# EAGLE library part HEADER_POS20_? (library con-molex-micro-fit-3_0)
Molex - Micro-Fit 3.0 Series connector, 3.00mm (0.118") pitch header, 20 positions.
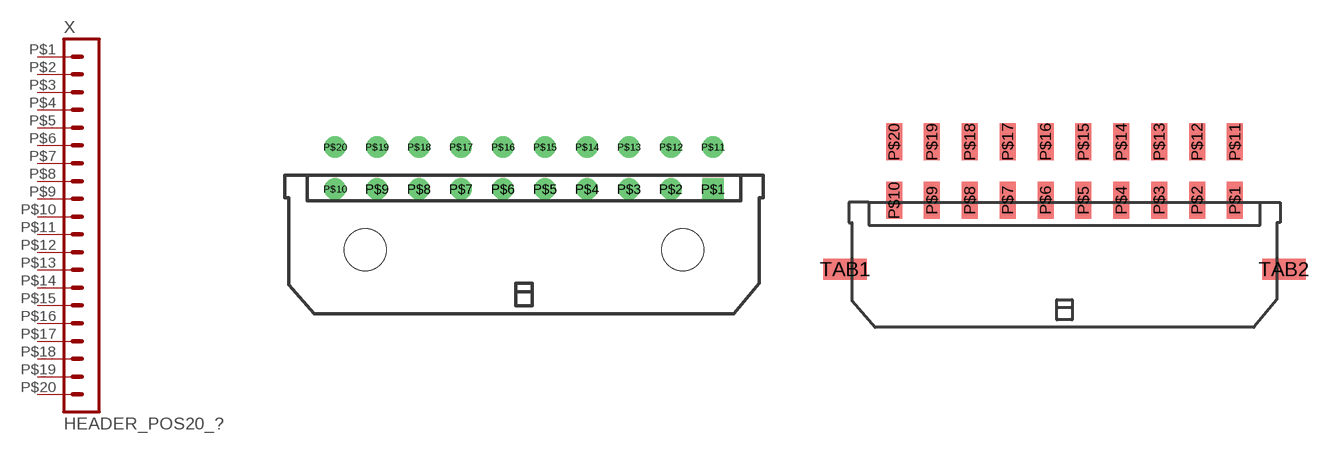
[diagram p8: symbol with the pads of 43045-2000; footprints 43045-2000, 43045-2009]

Designator prefix X

## HEADER_POS20_43045-2000  [43045-2000]
P$1  1  pas
P$2  2  pas
P$3  3  pas
P$4  4  pas
P$5  5  pas
P$6  6  pas
P$7  7  pas
P$8  8  pas
P$9  9  pas
P$10  10  pas
P$11  11  pas
P$12  12  pas
P$13  13  pas
P$14  14  pas
P$15  15  pas
P$16  16  pas
P$17  17  pas
P$18  18  pas
P$19  19  pas
P$20  20  pas

## HEADER_POS20_43045-2009  [43045-2009]
Pads as for 43045-2000

## HEADER_POS20_43045-2006  [43045-2006]
Pads as for 43045-2000

## HEADER_POS20_43045-2012  [43045-2012]
Pads as for 43045-2000

## HEADER_POS20_43045-2015  [43045-2015]
Pads as for 43045-2000

## HEADER_POS20_43045-2018  [43045-2018]
Pads as for 43045-2000

## HEADER_POS20_44914-2001  [44914-2001]
Pads as for 43045-2000

## HEADER_POS20_44769-2001  [44769-2001]
Pads as for 43045-2000

## HEADER_POS20_44432-2001  [44432-2001]
Pads as for 43045-2000

## HEADER_POS20_44428-2001  [44428-2001]
Pads as for 43045-2000

## HEADER_POS20_44764-2001  [44764-2001]
Pads as for 43045-2000

## Footprint 43045-2000 (pad centres in mm)
Molex Micro-Fit 3.0 - Header Shrouded, Thru hole, Right Angle; P/N: SD-43045-2000, SD-43045-2001, SD-43045-2002 http://www.molex.com/pdm_docs/sd/430450200_sd.pdf
drill 1.02 square: P$1 13.5,4.32
drill 1.02: P$2 10.5,4.32; P$3 7.5,4.32; P$4 4.5,4.32; P$5 1.5,4.32; P$6 -1.5,4.32; P$7 -4.5,4.32; P$8 -7.5,4.32; P$9 -10.5,4.32; P$10 -13.5,4.32; P$11 13.5,7.32; P$12 10.5,7.32; P$13 7.5,7.32; P$14 4.5,7.32; P$15 1.5,7.32; P$16 -1.5,7.32; P$17 -4.5,7.32; P$18 -7.5,7.32; P$19 -10.5,7.32; P$20 -13.5,7.32
hole 3 at 11.35,0
hole 3 at -11.35,0

## Footprint 43045-2009 (pad centres in mm)
Molex Micro-Fit 3.0 - Header Shrouded, Surface mount, Right Angle, Solderable tabs; P/N: SD-43045-2009, SD-43045-2010, SD-43045-2011 http://www.molex.com/pdm_docs/sd/430450209_sd.pdf
smd 1.27 x 2.92: P$1 13.5,5.47; P$2 10.5,5.47; P$3 7.5,5.47; P$4 4.5,5.47; P$5 1.5,5.47; P$6 -1.5,5.47; P$7 -4.5,5.47; P$8 -7.5,5.47; P$9 -10.5,5.47; P$10 -13.5,5.47; P$11 13.5,10.1; P$12 10.5,10.1; P$13 7.5,10.1; P$14 4.5,10.1; P$15 1.5,10.1; P$16 -1.5,10.1; P$17 -4.5,10.1; P$18 -7.5,10.1; P$19 -10.5,10.1; P$20 -13.5,10.1
smd 3.43 x 1.65: TAB1 -17.38,0; TAB2 17.38,0

## Footprint 43045-2006 (pad centres in mm)
Molex Micro-Fit 3.0 - Header Shrouded, Surface mount, Right Angle, Solderable Retention clips; P/N: SD-43045-2006, SD-43045-2007, SD-43045-2008 http://www.molex.com/pdm_docs/sd/430450206_sd.pdf
smd 1.27 x 2.92: P$1 13.5,5.47; P$2 10.5,5.47; P$3 7.5,5.47; P$4 4.5,5.47; P$5 1.5,5.47; P$6 -1.5,5.47; P$7 -4.5,5.47; P$8 -7.5,5.47; P$9 -10.5,5.47; P$10 -13.5,5.47; P$11 13.5,10.1; P$12 10.5,10.1; P$13 7.5,10.1; P$14 4.5,10.1; P$15 1.5,10.1; P$16 -1.5,10.1; P$17 -4.5,10.1; P$18 -7.5,10.1; P$19 -10.5,10.1; P$20 -13.5,10.1
hole 2.41 at -15.65,0
hole 2.41 at 15.65,0

## Footprint 43045-2012 (pad centres in mm)
Molex Micro-Fit 3.0 - Header Shrouded, Thru hole, Vertical, with Pegs; P/N: SD-43045-2012, SD-43045-2013, SD-43045-2014 http://www.molex.com/pdm_docs/sd/430450212_sd.pdf
drill 1.02 square: P$1 13.5,0
drill 1.02: P$2 10.5,0; P$3 7.5,0; P$4 4.5,0; P$5 1.5,0; P$6 -1.5,0; P$7 -4.5,0; P$8 -7.5,0; P$9 -10.5,0; P$10 -13.5,0; P$11 13.5,3; P$12 10.5,3; P$13 7.5,3; P$14 4.5,3; P$15 1.5,3; P$16 -1.5,3; P$17 -4.5,3; P$18 -7.5,3; P$19 -10.5,3; P$20 -13.5,3
hole 1.02 at 16.5,3.94
hole 1.02 at -16.5,3.94

## Footprint 43045-2015 (pad centres in mm)
Molex Micro-Fit 3.0 - Header Shrouded, Surface mount, Vertical, with Solderable Retention Clips; P/N: SD-43045-2015, SD-43045-2016, SD-43045-2017 http://www.molex.com/pdm_docs/sd/430450215_sd.pdf
smd 1.27 x 2.54: P$1 13.5,-4.7; P$2 10.5,-4.7; P$3 7.5,-4.7; P$4 4.5,-4.7; P$5 1.5,-4.7; P$6 -1.5,-4.7; P$7 -4.5,-4.7; P$8 -7.5,-4.7; P$9 -10.5,-4.7; P$10 -13.5,-4.7; P$11 13.5,4.7; P$12 10.5,4.7; P$13 7.5,4.7; P$14 4.5,4.7; P$15 1.5,4.7; P$16 -1.5,4.7; P$17 -4.5,4.7; P$18 -7.5,4.7; P$19 -10.5,4.7; P$20 -13.5,4.7
hole 2.41 at -15.65,0
hole 2.41 at 15.65,0

## Footprint 43045-2018 (pad centres in mm)
Molex Micro-Fit 3.0 - Header Shrouded, Surface mount, Vertical, with Solder Tabs; P/N: SD-43045-2018, SD-43045-2019, SD-43045-2020 http://www.molex.com/pdm_docs/sd/430450218_sd.pdf
smd 3.43 x 1.65: CLIP1 -17.38,0; CLIP2 17.38,0
smd 1.27 x 2.54: P$1 13.5,-4.7; P$2 10.5,-4.7; P$3 7.5,-4.7; P$4 4.5,-4.7; P$5 1.5,-4.7; P$6 -1.5,-4.7; P$7 -4.5,-4.7; P$8 -7.5,-4.7; P$9 -10.5,-4.7; P$10 -13.5,-4.7; P$11 13.5,4.7; P$12 10.5,4.7; P$13 7.5,4.7; P$14 4.5,4.7; P$15 1.5,4.7; P$16 -1.5,4.7; P$17 -4.5,4.7; P$18 -7.5,4.7; P$19 -10.5,4.7; P$20 -13.5,4.7

## Footprint 44914-2001 (pad centres in mm)
Molex Micro-Fit 3.0 - Header Shrouded, Thru hole, Vertical, Press-fit, with Pegs; P/N: SD-44914-2001, SD-44914-2002, SD-44914-2003 http://www.molex.com/pdm_docs/sd/449140201_sd.pdf
drill 1.09 square: P$1 13.5,0
drill 1.09: P$2 10.5,0; P$3 7.5,0; P$4 4.5,0; P$5 1.5,0; P$6 -1.5,0; P$7 -4.5,0; P$8 -7.5,0; P$9 -10.5,0; P$10 -13.5,0; P$11 13.5,3; P$12 10.5,3; P$13 7.5,3; P$14 4.5,3; P$15 1.5,3; P$16 -1.5,3; P$17 -4.5,3; P$18 -7.5,3; P$19 -10.5,3; P$20 -13.5,3
hole 1.02 at 16.5,3.94
hole 1.02 at -16.5,3.94

## Footprint 44769-2001 (pad centres in mm)
Molex Micro-Fit 3.0 - Board-to-Board BMI (Blind Mate Interface), Receptacle Vertical, Thru hole; P/N: SD-44769-2001, SD-44769-2002, SD-44769-2003 http://www.molex.com/pdm_docs/sd/447690401_sd.pdf
drill 1.02 square: P$1 -13.5,0
drill 1.02: P$2 -10.5,0; P$3 -7.5,0; P$4 -4.5,0; P$5 -1.5,0; P$6 1.5,0; P$7 4.5,0; P$8 7.5,0; P$9 10.5,0; P$10 13.5,0; P$11 -13.5,3; P$12 -10.5,3; P$13 -7.5,3; P$14 -4.5,3; P$15 -1.5,3; P$16 1.5,3; P$17 4.5,3; P$18 7.5,3; P$19 10.5,3; P$20 13.5,3
hole 2.36 at 16.5,3
hole 2.36 at -16.5,3

## Footprint 44432-2001 (pad centres in mm)
Molex Micro-Fit 3.0 - Board-to-Board BMI (Blind Mate Interface), Header Vertical, Thru hole, with Pegs; P/N: SD-44432-2001, SD-44432-2002, SD-44432-2003 http://www.molex.com/pdm_docs/sd/444320401_sd.pdf
drill 1.02 square: P$1 13.5,-3
drill 1.02: P$2 10.5,-3; P$3 7.5,-3; P$4 4.5,-3; P$5 1.5,-3; P$6 -1.5,-3; P$7 -4.5,-3; P$8 -7.5,-3; P$9 -10.5,-3; P$10 -13.5,-3; P$11 13.5,0; P$12 10.5,0; P$13 7.5,0; P$14 4.5,0; P$15 1.5,0; P$16 -1.5,0; P$17 -4.5,0; P$18 -7.5,0; P$19 -10.5,0; P$20 -13.5,0
hole 1.57 at -18,1.45
hole 1.57 at 18,1.45

## Footprint 44428-2001 (pad centres in mm)
Molex Micro-Fit 3.0 - Board-to-Board BMI (Blind Mate Interface), Header Right Angle, Thru hole, with Pegs; P/N: SD-44428-2001, SD-44428-2002, SD-44428-2003 http://www.molex.com/pdm_docs/sd/444280401_sd.pdf
drill 1.02 square: P$1 13.5,0
drill 1.02: P$2 10.5,0; P$3 7.5,0; P$4 4.5,0; P$5 1.5,0; P$6 -1.5,0; P$7 -4.5,0; P$8 -7.5,0; P$9 -10.5,0; P$10 -13.5,0; P$11 13.5,3; P$12 10.5,3; P$13 7.5,3; P$14 4.5,3; P$15 1.5,3; P$16 -1.5,3; P$17 -4.5,3; P$18 -7.5,3; P$19 -10.5,3; P$20 -13.5,3
hole 3 at 11.34,-8.53
hole 3 at -11.34,-8.53

## Footprint 44764-2001 (pad centres in mm)
Molex Micro-Fit 3.0 - Board-to-Board BMI (Blind Mate Interface), Receptacle, Right Angle, Thru hole; P/N: SD-44764-2001, SD-44764-2002, SD-44764-2003 http://www.molex.com/pdm_docs/sd/447640401_sd.pdf
drill 1.02 square: P$1 -13.5,0
drill 1.02: P$2 -10.5,0; P$3 -7.5,0; P$4 -4.5,0; P$5 -1.5,0; P$6 1.5,0; P$7 4.5,0; P$8 7.5,0; P$9 10.5,0; P$10 13.5,0; P$11 -13.5,3; P$12 -10.5,3; P$13 -7.5,3; P$14 -4.5,3; P$15 -1.5,3; P$16 1.5,3; P$17 4.5,3; P$18 7.5,3; P$19 10.5,3; P$20 13.5,3
hole 2.36 at -12,-3.05
hole 2.36 at 12,-3.05